# Altium footprint library gba-zero-parts.PCBLIB: 22 footprints (part 2 of 2)
Each footprint in its own frame and in the unit in brackets; x right, y up, seen from the top. Pads: shape width x height; smd on the part's side, far side on the other; paste and mask are expansions set on the pad; w line width, h text height; cw(c..) or ccw(c..) is an arc to the next point about the centre after c.
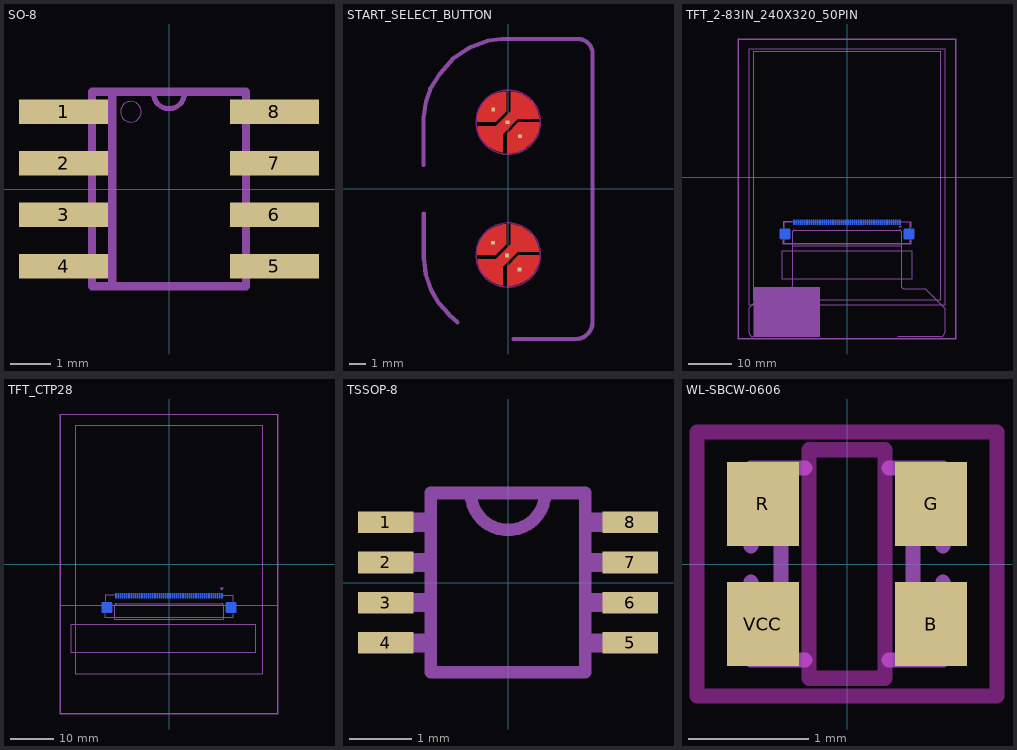
[diagram p1: the footprints below, top view; thin cyan lines are the x and y axes]

## SO-8 [mil]
pads (8):
  rect 86.61x23.62 smd: 1(-102.36,75) 2(-102.36,25) 3(-102.36,-25) 4(-102.36,-75) 5(102.36,-75) 6(102.36,-25) 7(102.36,25) 8(102.36,75)
tDocu:
  lines w8: 74.8,-94.49 74.8,94.49 ; -74.8,-94.49 -55.12,-94.49 -55.12,94.49 -74.8,94.49 -74.8,-94.49
tPlace:
  circle w0: c-37,75 r10
  lines w5: -15,93 ccw(c0,93) 15,93
  lines w8: -55.12,-94.49 74.8,-94.49 ; -55.12,94.49 74.8,94.49

## START_SELECT_BUTTON [mil]
pads (6):
  rect 9.05x9.05 smd: GND@1(-36.18,-128.45) GND@2(27.14,-191.78) GND@3(-35.28,187.25) GND@4(28.04,123.93) SEL(-2.71,-158.31) STR(-1.81,157.4)
Top:
  region: -72.66,147.74 -29.28,147.74 6.05,183.07 6.05,230.06 11.05,230.06 17.08,229.28 28.69,225.72 39.53,220.24 49.29,213 57.68,204.22 64.47,194.15 69.45,183.07 72.49,171.31 73,165.26 22.97,165.26 -12.38,129.04 -12.38,85.01 -17.84,85.93 -28.37,89.39 -38.28,94.36 -47.33,100.75 -55.35,108.4 -62.14,117.16 -67.56,126.83 -71.48,137.19 -72.66,142.6
  region: -2.1,83.84 -2.1,129.47 24.25,156.78 73.69,156.78 73.54,149.83 70.66,136.21 65.32,123.36 57.71,111.72 48.08,101.68 36.76,93.59 24.14,87.72 10.66,84.29 3.72,83.84
  region: -73.56,158.02 -29.48,158.02 -5.14,183.33 -5.14,230.26 -11.62,229.99 -24.27,227.13 -36.2,222.05 -47.03,214.91 -56.39,205.94 -64,195.44 -69.6,183.74 -73.01,171.23 -73.56,164.77
  region: -72.66,-167.07 -29.28,-167.07 6.05,-131.74 6.05,-84.75 11.05,-84.75 17.08,-85.53 28.69,-89.09 39.53,-94.57 49.29,-101.81 57.68,-110.59 64.47,-120.66 69.45,-131.74 72.49,-143.5 73,-149.55 22.97,-149.55 -12.38,-185.76 -12.38,-229.79 -17.84,-228.87 -28.37,-225.41 -38.28,-220.44 -47.33,-214.06 -55.35,-206.4 -62.14,-197.65 -67.56,-187.98 -71.48,-177.62 -72.66,-172.21
  region: -2.1,-230.96 -2.1,-185.33 24.25,-158.02 73.69,-158.02 73.54,-164.97 70.66,-178.59 65.32,-191.44 57.71,-203.08 48.08,-213.12 36.76,-221.21 24.14,-227.08 10.66,-230.51 3.72,-230.96
  region: -73.56,-156.78 -29.48,-156.78 -5.14,-131.47 -5.14,-84.55 -11.62,-84.82 -24.27,-87.68 -36.2,-92.76 -47.03,-99.9 -56.39,-108.87 -64,-119.37 -69.6,-131.07 -73.01,-143.58 -73.56,-150.04
Top keep-out:
  circle w4: c0,157.4 r76.18
  circle w4: c0,-157.4 r76.18
Top Solder:
  circle w0: c0,157.4 r74.18
  circle w0: c0,-157.4 r74.18
tPlace:
  lines w9.95: -200.82,56.09 -200.82,167.35 -194.49,206.25 -184.54,237.01 -161.02,273.19 -131.17,307.57 -94.08,332.9 -47.04,350.99 -15.38,354.61 165.54,354.61 cw(c165.54,320.23) 199.92,320.23 199.92,-316.61 cw(c160.12,-316.62) 160.12,-356.42 12.66,-356.42 ; -199.92,-58.8 -199.92,-167.35 -195.4,-203.54 -181.83,-242.44 -164.64,-271.38 -141.12,-297.62 -120.31,-316.61

## TFT_2-83IN_240X320_50PIN [mm]
pads (52):
  rect 0.275x1.2 smd far side mask+0: 1(12.25,-10.39) 2(11.75,-10.39) 3(11.25,-10.39) 4(10.75,-10.39) 5(10.25,-10.39) 6(9.75,-10.39) 7(9.25,-10.39) 8(8.75,-10.39) 9(8.25,-10.39) 10(7.75,-10.39) 11(7.25,-10.39) 12(6.75,-10.39) 13(6.25,-10.39) 14(5.75,-10.39) 15(5.25,-10.39) 16(4.75,-10.39) 17(4.25,-10.39) 18(3.75,-10.39) 19(3.25,-10.39) 20(2.75,-10.39) 21(2.25,-10.39) 22(1.75,-10.39) 23(1.25,-10.39) 24(0.75,-10.39) 25(0.25,-10.39) 26(-0.25,-10.39) 27(-0.75,-10.39) 28(-1.25,-10.39) 29(-1.75,-10.39) 30(-2.25,-10.39) 31(-2.75,-10.39) 32(-3.25,-10.39) 33(-3.75,-10.39) 34(-4.25,-10.39) 35(-4.75,-10.39) 36(-5.25,-10.39) 37(-5.75,-10.39) 38(-6.25,-10.39) 39(-6.75,-10.39) 40(-7.25,-10.39) 41(-7.75,-10.39) 42(-8.25,-10.39) 43(-8.75,-10.39) 44(-9.25,-10.39) 45(-9.75,-10.39) 46(-10.25,-10.39) 47(-10.75,-10.39) 48(-11.25,-10.39) 49(-11.75,-10.39) 50(-12.25,-10.39)
  rrect25% 2.4x2.4 smd far side: PAD1(14.35,-13.09) PAD2(-14.35,-13.09)
Bottom Solder:
  drawing of 50 lines, arcs and shapes, not listed
Milling:
  region: -21.59,-36.83 -21.59,-25.4 -6.35,-25.4 -6.35,-36.83
tDocu:
  lines w0.127: -11.8,-36.9 -12.1,-36.9 -21.7,-36.9 cw(c-21.7,-36) -22.6,-36 -22.6,-30.2 -18.2,-25.8 -13.5,-25.8 ccw(c-13.5,-24.8) -12.5,-24.8 -12.5,-15.8 ; 11.7,-36.9 21.6,-36.9 ccw(c21.6,-35.9) 22.6,-35.9 22.6,-30.3 18.1,-25.8 17.9,-25.8 13.4,-25.8 cw(c13.4,-24.9) 12.5,-24.9 12.5,-15.8 ; -12.5,-15.8 -12.5,-12.5 cw(c-12.2,-12.5) -12.2,-12.2 12.2,-12.2 cw(c12.2,-12.5) 12.5,-12.5 12.5,-15.8 ; -12.5,-15.8 12.5,-15.8 ; -25,-37.3 25,-37.3 25,31.9 -25,31.9 -25,-37.3 ; -22.6,-29.55 22.6,-29.55 22.6,29.8 -22.6,29.8 -22.6,-29.55 ; -21.6,-28.38 21.6,-28.38 21.6,29.22 -21.6,29.22 -21.6,-28.38 ; -15,-23.54 15,-23.54 15,-17 -15,-17 -15,-23.54
  text "2.83\" 240x320" at 0,1.2 h1.97
  text "TFT LCD Display" at 0,-1.5 h1.97
  text "50" at -11.2,-16.7 h0.86
  text "1" at 11.6,-16.7 h0.86
  text "XL" at -19.5,0 h1.42
  text "XR" at 19.5,0 h1.42
  text "YU" at 0,27.5 h1.42
  text "YD" at 0,-27 h1.42
  text "Suggested Cutout Zone" at 0,-22.5 h1.26
  text "Captouch chip" at 8.89,-33.02 h1.97
bDocu:
  lines w0.127: 12.3,-11.39 12.4,-11.49 ; 12.4,-11.49 12.1,-11.49 12.3,-11.29 12.5,-11.49 12.4,-11.49 ; -14.65,-15.39 -14.65,-10.39 14.65,-10.39 14.65,-15.39 -14.65,-15.39
tPlace:
  lines w0.127: -25.1,-37.4 25.1,-37.4 25.1,32 -25.1,32 -25.1,-37.4
bPlace:
  lines w0.127: -14.8,-14.59 -14.8,-15.49 14.8,-15.49 14.8,-14.59 ; -14.8,-11.59 -14.8,-10.29 -12.7,-10.29 ; 12.6,-10.29 14.8,-10.29 14.8,-11.59

## TFT_CTP28 [mm]
pads (52):
  rect 0.275x1.2 smd far side mask+0: 1(12.25,-7.36) 2(11.75,-7.36) 3(11.25,-7.36) 4(10.75,-7.36) 5(10.25,-7.36) 6(9.75,-7.36) 7(9.25,-7.36) 8(8.75,-7.36) 9(8.25,-7.36) 10(7.75,-7.36) 11(7.25,-7.36) 12(6.75,-7.36) 13(6.25,-7.36) 14(5.75,-7.36) 15(5.25,-7.36) 16(4.75,-7.36) 17(4.25,-7.36) 18(3.75,-7.36) 19(3.25,-7.36) 20(2.75,-7.36) 21(2.25,-7.36) 22(1.75,-7.36) 23(1.25,-7.36) 24(0.75,-7.36) 25(0.25,-7.36) 26(-0.25,-7.36) 27(-0.75,-7.36) 28(-1.25,-7.36) 29(-1.75,-7.36) 30(-2.25,-7.36) 31(-2.75,-7.36) 32(-3.25,-7.36) 33(-3.75,-7.36) 34(-4.25,-7.36) 35(-4.75,-7.36) 36(-5.25,-7.36) 37(-5.75,-7.36) 38(-6.25,-7.36) 39(-6.75,-7.36) 40(-7.25,-7.36) 41(-7.75,-7.36) 42(-8.25,-7.36) 43(-8.75,-7.36) 44(-9.25,-7.36) 45(-9.75,-7.36) 46(-10.25,-7.36) 47(-10.75,-7.36) 48(-11.25,-7.36) 49(-11.75,-7.36) 50(-12.25,-7.36)
  rrect25% 2.4x2.4 smd far side: PAD1(14.35,-10.06) PAD2(-14.35,-10.06)
tDocu:
  lines w0.127: -25,-9.6 -25,-34.6 25,-34.6 25,-9.6 ; -25,-9.6 -25,34.6 25,34.6 25,-9.6 ; -25,-9.6 25,-9.6 ; -22.62,-20.51 20,-20.51 20,-13.97 -22.62,-13.97 -22.62,-20.51 ; -21.6,-25.5 21.6,-25.5 21.6,32.1 -21.6,32.1 -21.6,-25.5 ; -12.5,-12.77 -12.5,-9.47 cw(c-12.2,-9.47) -12.2,-9.17 12.2,-9.17 cw(c12.2,-9.47) 12.5,-9.47 12.5,-12.77 -12.5,-12.77
  text "2.83\"" at 0,27.657 h2.6
  text "240x320 Display" at 0,25.143 h2.6
  text "Capacitive Touch Panel" at 0,21 h2.6
  text "50" at -11.2,-13.67 h0.86
  text "1" at 11.6,-13.67 h0.86
  text "Suggested Cutout Zone" at 0,-19.47 h1.26
tPlace:
  lines w0.127: -25.1,-34.7 25.1,-34.7 25.1,34.7 -25.1,34.7 -25.1,-34.7
bPlace:
  region: 12.2,-6.03 11.7,-5.53 12.7,-5.53
  lines w0.127: -14.8,-11.56 -14.8,-12.46 14.8,-12.46 14.8,-11.56 ; -14.8,-8.56 -14.8,-7.26 -12.7,-7.26 ; 12.6,-7.26 14.8,-7.26 14.8,-8.56

## TSSOP-8 [mm]
pads (8):
  rect 0.9x0.35 smd: 1(-1.975,0.975) 2(-1.975,0.325) 3(-1.975,-0.325) 4(-1.975,-0.975) 5(1.975,-0.975) 6(1.975,-0.325) 7(1.975,0.325) 8(1.975,0.975)
tDocu:
  region: -2.3,0.825 -2.3,1.125 -1.35,1.125 -1.35,0.825
  region: -2.3,0.175 -2.3,0.475 -1.35,0.475 -1.35,0.175
  region: -2.3,-0.475 -2.3,-0.175 -1.35,-0.175 -1.35,-0.475
  region: -2.3,-1.125 -2.3,-0.825 -1.35,-0.825 -1.35,-1.125
  region: 2.3,-0.825 2.3,-1.125 1.35,-1.125 1.35,-0.825
  region: 2.3,-0.175 2.3,-0.475 1.35,-0.475 1.35,-0.175
  region: 2.3,0.475 2.3,0.175 1.35,0.175 1.35,0.475
  region: 1.35,0.825 1.35,1.125 2.3,1.125 2.3,0.825
tPlace:
  lines w0.203: -0.6,1.448 ccw(c0,1.448) 0.6,1.448 ; -1.248,-1.448 1.248,-1.448 1.248,1.448 -1.248,1.448 -1.248,-1.448

## WL-SBCW-0606 [mil]
pads (4):
  rect 23.62x27.56 smd: B(27.56,-19.69) G(27.56,19.69) R(-27.56,19.69) VCC(-27.56,-19.69)
Top keep-out:
  lines w5: -49.21,-43.31 -49.21,43.31 49.21,43.31 49.21,-43.31 -49.21,-43.31 ; -12.5,-37.5 -12.5,37.5 12.5,37.5 12.5,-37.5 -12.5,-37.5
tDocu:
  lines w5: -31.5,-5.91 -31.5,-31.5 -21.65,-31.5 ; -31.5,5.91 -31.5,31.5 -21.65,31.5 ; -13.78,-31.5 -21.65,-31.5 ; -13.78,31.5 -21.65,31.5 ; 13.78,-31.5 21.65,-31.5 ; 13.78,31.5 21.65,31.5 ; 31.5,-5.91 31.5,-31.5 21.65,-31.5 ; 31.5,5.91 31.5,31.5 21.65,31.5 ; -21.65,-31.5 -21.65,31.5 ; 21.65,-31.5 21.65,31.5